# EAGLE library part M16C/24(80PIN) (library renesas_mcu)
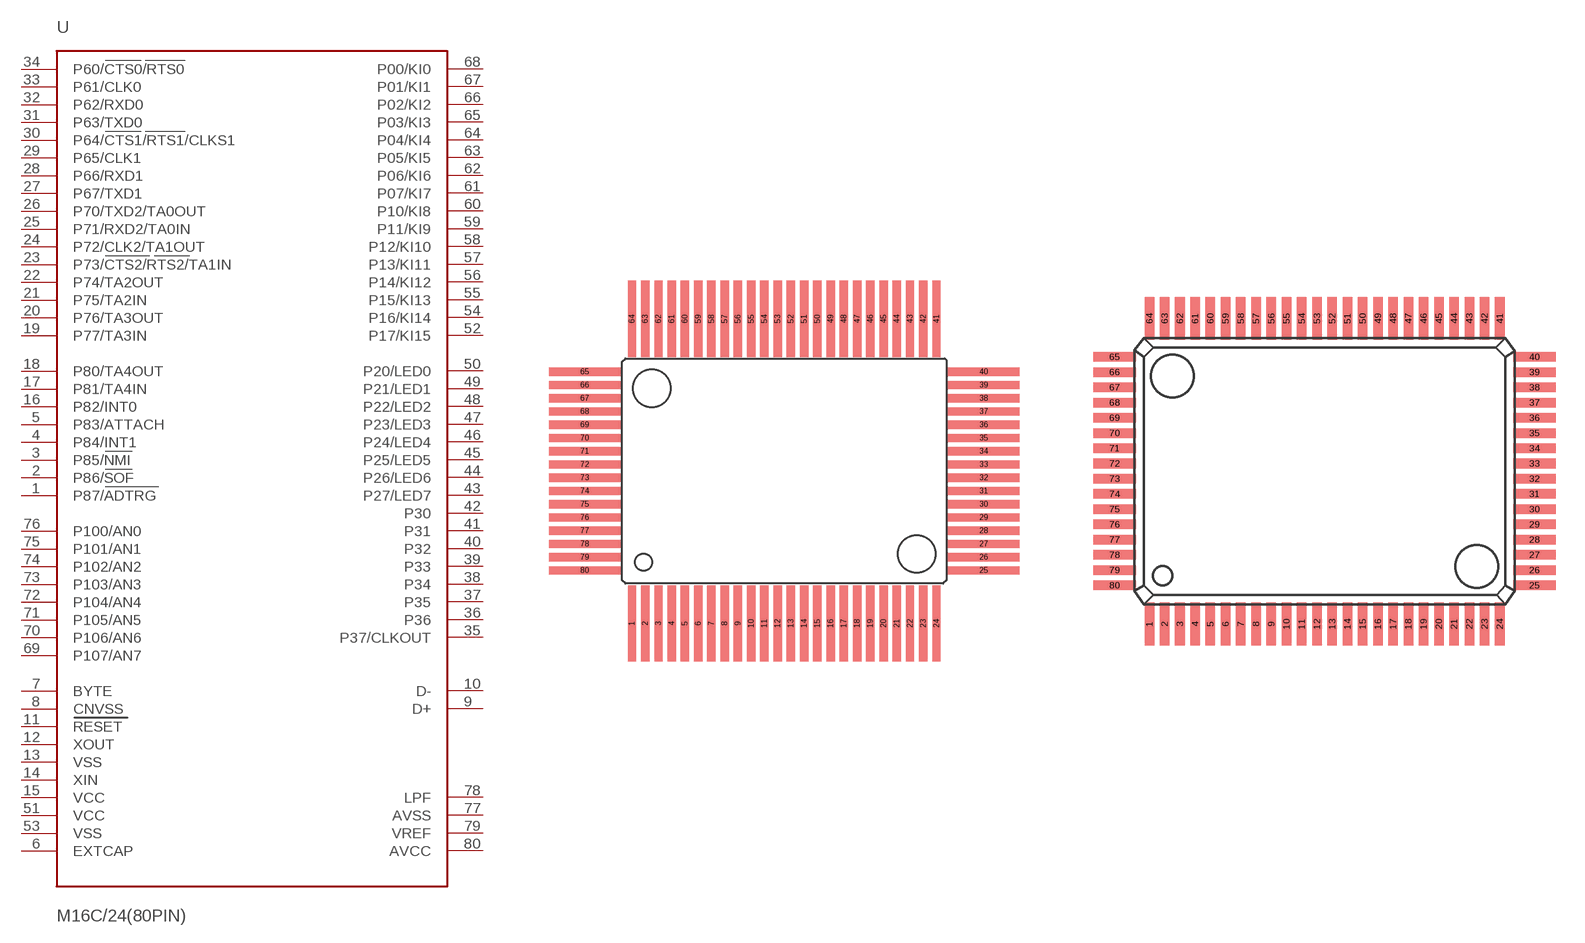
[diagram p33: symbol with the pads of 80P6N-A(SOCKET); footprints 80P6N-A(SOCKET), 80P6N-A]

Designator prefix -

## M16C/24(80PIN)1  [80P6N-A(SOCKET)]
1  P87/ADTRG
2  P86/SOF
3  P85/NMI
4  P84/INT1
5  P83/ATTACH  in
6  EXTCAP  pwr
7  BYTE  in
8  CNVSS  in
9  D+
10  D-
11  RESET  in
12  XOUT  out
13  VSS  pwr
14  XIN  in
15  VCC  pwr
16  P82/INT0
17  P81/TA4IN
18  P80/TA4OUT
19  P77/TA3IN
20  P76/TA3OUT
21  P75/TA2IN
22  P74/TA2OUT
23  P73/CTS2/RTS2/TA1IN
24  P72/CLK2/TA1OUT
25  P71/RXD2/TA0IN
26  P70/TXD2/TA0OUT
27  P67/TXD1
28  P66/RXD1
29  P65/CLK1
30  P64/CTS1/RTS1/CLKS1
31  P63/TXD0
32  P62/RXD0
33  P61/CLK0
34  P60/CTS0/RTS0
35  P37/CLKOUT
36  P36
37  P35
38  P34
39  P33
40  P32
41  P31
42  P30
43  P27/LED7
44  P26/LED6
45  P25/LED5
46  P24/LED4
47  P23/LED3
48  P22/LED2
49  P21/LED1
50  P20/LED0
51  VCC  pwr
52  P17/KI15
53  VSS  pwr
54  P16/KI14
55  P15/KI13
56  P14/KI12
57  P13/KI11
58  P12/KI10
59  P11/KI9
60  P10/KI8
61  P07/KI7
62  P06/KI6
63  P05/KI5
64  P04/KI4
65  P03/KI3
66  P02/KI2
67  P01/KI1
68  P00/KI0
69  P107/AN7
70  P106/AN6
71  P105/AN5
72  P104/AN4
73  P103/AN3
74  P102/AN2
75  P101/AN1
76  P100/AN0
77  AVSS  in
78  LPF  out
79  VREF  in
80  AVCC  in

## M16C/24(80PIN)2  [80P6N-A]
Pads as for 80P6N-A(SOCKET)

## Footprint 80P6N-A(SOCKET) (pad centres in mm)
for socket
smd 0.5 x 4.6: 1 -9.2,-9.2; 2 -8.4,-9.2; 3 -7.6,-9.2; 4 -6.8,-9.2; 5 -6,-9.2; 6 -5.2,-9.2; 7 -4.4,-9.2; 8 -3.6,-9.2; 9 -2.8,-9.2; 10 -2,-9.2; 11 -1.2,-9.2; 12 -0.4,-9.2; 13 0.4,-9.2; 14 1.2,-9.2; 15 2,-9.2; 16 2.8,-9.2; 17 3.6,-9.2; 18 4.4,-9.2; 19 5.2,-9.2; 20 6,-9.2; 21 6.8,-9.2; 22 7.6,-9.2; 23 8.4,-9.2; 24 9.2,-9.2; 41 9.2,9.2; 42 8.4,9.2; 43 7.6,9.2; 44 6.8,9.2; 45 6,9.2; 46 5.2,9.2; 47 4.4,9.2; 48 3.6,9.2; 49 2.8,9.2; 50 2,9.2; 51 1.2,9.2; 52 0.4,9.2; 53 -0.4,9.2; 54 -1.2,9.2; 55 -2,9.2; 56 -2.8,9.2; 57 -3.6,9.2; 58 -4.4,9.2; 59 -5.2,9.2; 60 -6,9.2; 61 -6.8,9.2; 62 -7.6,9.2; 63 -8.4,9.2; 64 -9.2,9.2
smd 4.3 x 0.5: 25 12.05,-6; 26 12.05,-5.2; 27 12.05,-4.4; 28 12.05,-3.6; 29 12.05,-2.8; 30 12.05,-2; 31 12.05,-1.2; 32 12.05,-0.4; 33 12.05,0.4; 34 12.05,1.2; 35 12.05,2; 36 12.05,2.8; 37 12.05,3.6; 38 12.05,4.4; 39 12.05,5.2; 40 12.05,6; 65 -12.05,6; 66 -12.05,5.2; 67 -12.05,4.4; 68 -12.05,3.6; 69 -12.05,2.8; 70 -12.05,2; 71 -12.05,1.2; 72 -12.05,0.4; 73 -12.05,-0.4; 74 -12.05,-1.2; 75 -12.05,-2; 76 -12.05,-2.8; 77 -12.05,-3.6; 78 -12.05,-4.4; 79 -12.05,-5.2; 80 -12.05,-6

## Footprint 80P6N-A (pad centres in mm)
smd 0.5 x 2.25: 1 -9.2,-8.025; 2 -8.4,-8.025; 3 -7.6,-8.025; 4 -6.8,-8.025; 5 -6,-8.025; 6 -5.2,-8.025; 7 -4.4,-8.025; 8 -3.6,-8.025; 9 -2.8,-8.025; 10 -2,-8.025; 11 -1.2,-8.025; 12 -0.4,-8.025; 13 0.4,-8.025; 14 1.2,-8.025; 15 2,-8.025; 16 2.8,-8.025; 17 3.6,-8.025; 18 4.4,-8.025; 19 5.2,-8.025; 20 6,-8.025; 21 6.8,-8.025; 22 7.6,-8.025; 23 8.4,-8.025; 24 9.2,-8.025; 41 9.2,8.025; 42 8.4,8.025; 43 7.6,8.025; 44 6.8,8.025; 45 6,8.025; 46 5.2,8.025; 47 4.4,8.025; 48 3.6,8.025; 49 2.8,8.025; 50 2,8.025; 51 1.2,8.025; 52 0.4,8.025; 53 -0.4,8.025; 54 -1.2,8.025; 55 -2,8.025; 56 -2.8,8.025; 57 -3.6,8.025; 58 -4.4,8.025; 59 -5.2,8.025; 60 -6,8.025; 61 -6.8,8.025; 62 -7.6,8.025; 63 -8.4,8.025; 64 -9.2,8.025
smd 2.25 x 0.5: 25 11.025,-6; 26 11.025,-5.2; 27 11.025,-4.4; 28 11.025,-3.6; 29 11.025,-2.8; 30 11.025,-2; 31 11.025,-1.2; 32 11.025,-0.4; 33 11.025,0.4; 34 11.025,1.2; 35 11.025,2; 36 11.025,2.8; 37 11.025,3.6; 38 11.025,4.4; 39 11.025,5.2; 40 11.025,6; 65 -11.025,6; 66 -11.025,5.2; 67 -11.025,4.4; 68 -11.025,3.6; 69 -11.025,2.8; 70 -11.025,2; 71 -11.025,1.2; 72 -11.025,0.4; 73 -11.025,-0.4; 74 -11.025,-1.2; 75 -11.025,-2; 76 -11.025,-2.8; 77 -11.025,-3.6; 78 -11.025,-4.4; 79 -11.025,-5.2; 80 -11.025,-6